# Altium footprint library LQFN-16(3.0X3.0).PcbLib: 1 footprints
Each footprint in its own frame and in the unit in brackets; x right, y up, seen from the top. Pads: shape width x height; smd on the part's side, far side on the other; paste and mask are expansions set on the pad; w line width, h text height; cw(c..) or ccw(c..) is an arc to the next point about the centre after c.
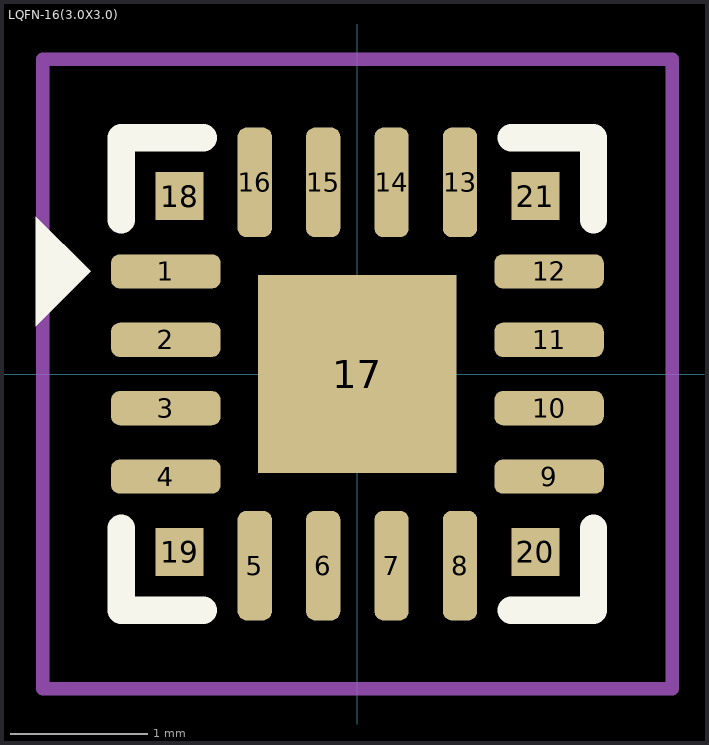
[diagram p0: the footprint, top view; thin cyan lines are the x and y axes]

## LQFN-16(3.0X3.0) [mm]
pads (21):
  rrect50% 0.8x0.25 smd: 1(-1.4,0.75) 2(-1.4,0.25) 3(-1.4,-0.25) 4(-1.4,-0.75) 9(1.4,-0.75) 10(1.4,-0.25) 11(1.4,0.25) 12(1.4,0.75)
  rrect50% 0.25x0.8 smd: 5(-0.75,-1.4) 6(-0.25,-1.4) 7(0.25,-1.4) 8(0.75,-1.4) 13(0.75,1.4) 14(0.25,1.4) 15(-0.25,1.4) 16(-0.75,1.4)
  rect 1.45x1.45 smd: 17(0,0)
  rect 0.35x0.35 smd: 18(-1.3,1.3) 19(-1.3,-1.3) 20(1.3,-1.3) 21(1.3,1.3)
Top Overlay:
  region: -2.35,0.35 -2.35,1.15 -1.95,0.75
  lines w0.2: -1.725,-1.125 -1.725,-1.725 -1.125,-1.725 ; -1.725,1.125 -1.725,1.725 -1.125,1.725 ; 1.125,-1.725 1.725,-1.725 1.725,-1.125 ; 1.125,1.725 1.725,1.725 1.725,1.125
Top Courtyard:
  lines w0.1: -2.3,-2.3 2.3,-2.3 2.3,2.3 -2.3,2.3 -2.3,-2.3
3D body "ALSRobot-QFN16 3x3.STEP": height 0.9, standoff 0, extent -1.521,-1.525 1.521,1.517